# Altium schematic symbol library CONV.SchLib: 1 symbol
Pins are listed as number, name and electrical type; pins without a type are passive.

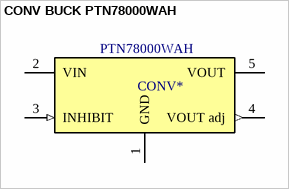
[diagram p0: symbol CONV BUCK PTN78000WAH]

## CONV BUCK PTN78000WAH
designator CONV*  Type: PTN78000WAH
CONV BUCK, 7-36Vin, 2.5-12.6Vout, 1.5A; ComponentLink1URL: https://github.com/liparrok/Altium/blob/master/Libraries/Datasheet/PTN78000WAH.pdf; OrderCode: PTN78000WAH; ComponentLink2URL: http://si.farnell.com/texas-instruments/ptn78000wah/buck-7-36v-1-5a-2-5-12-6v/dp/1564908?CMP=os_Google-SI_ProductDetail_Redirect; Other: *; ComponentLink1Description: Datasheet; ComponentLink2Description: Farnell; Value: *
pins: 1 GND (power), 2 VIN (power), 3 INHIBIT (in) "Ref. voltage output", 4 VOUT adj (out), 5 VOUT (power)